# Altium footprint library RF_Module.PcbLib: 68 footprints (part 3 of 5)
Each footprint in its own frame and in the unit in brackets; x right, y up, seen from the top. Pads: shape width x height; smd on the part's side, far side on the other; paste and mask are expansions set on the pad; w line width, h text height; cw(c..) or ccw(c..) is an arc to the next point about the centre after c.
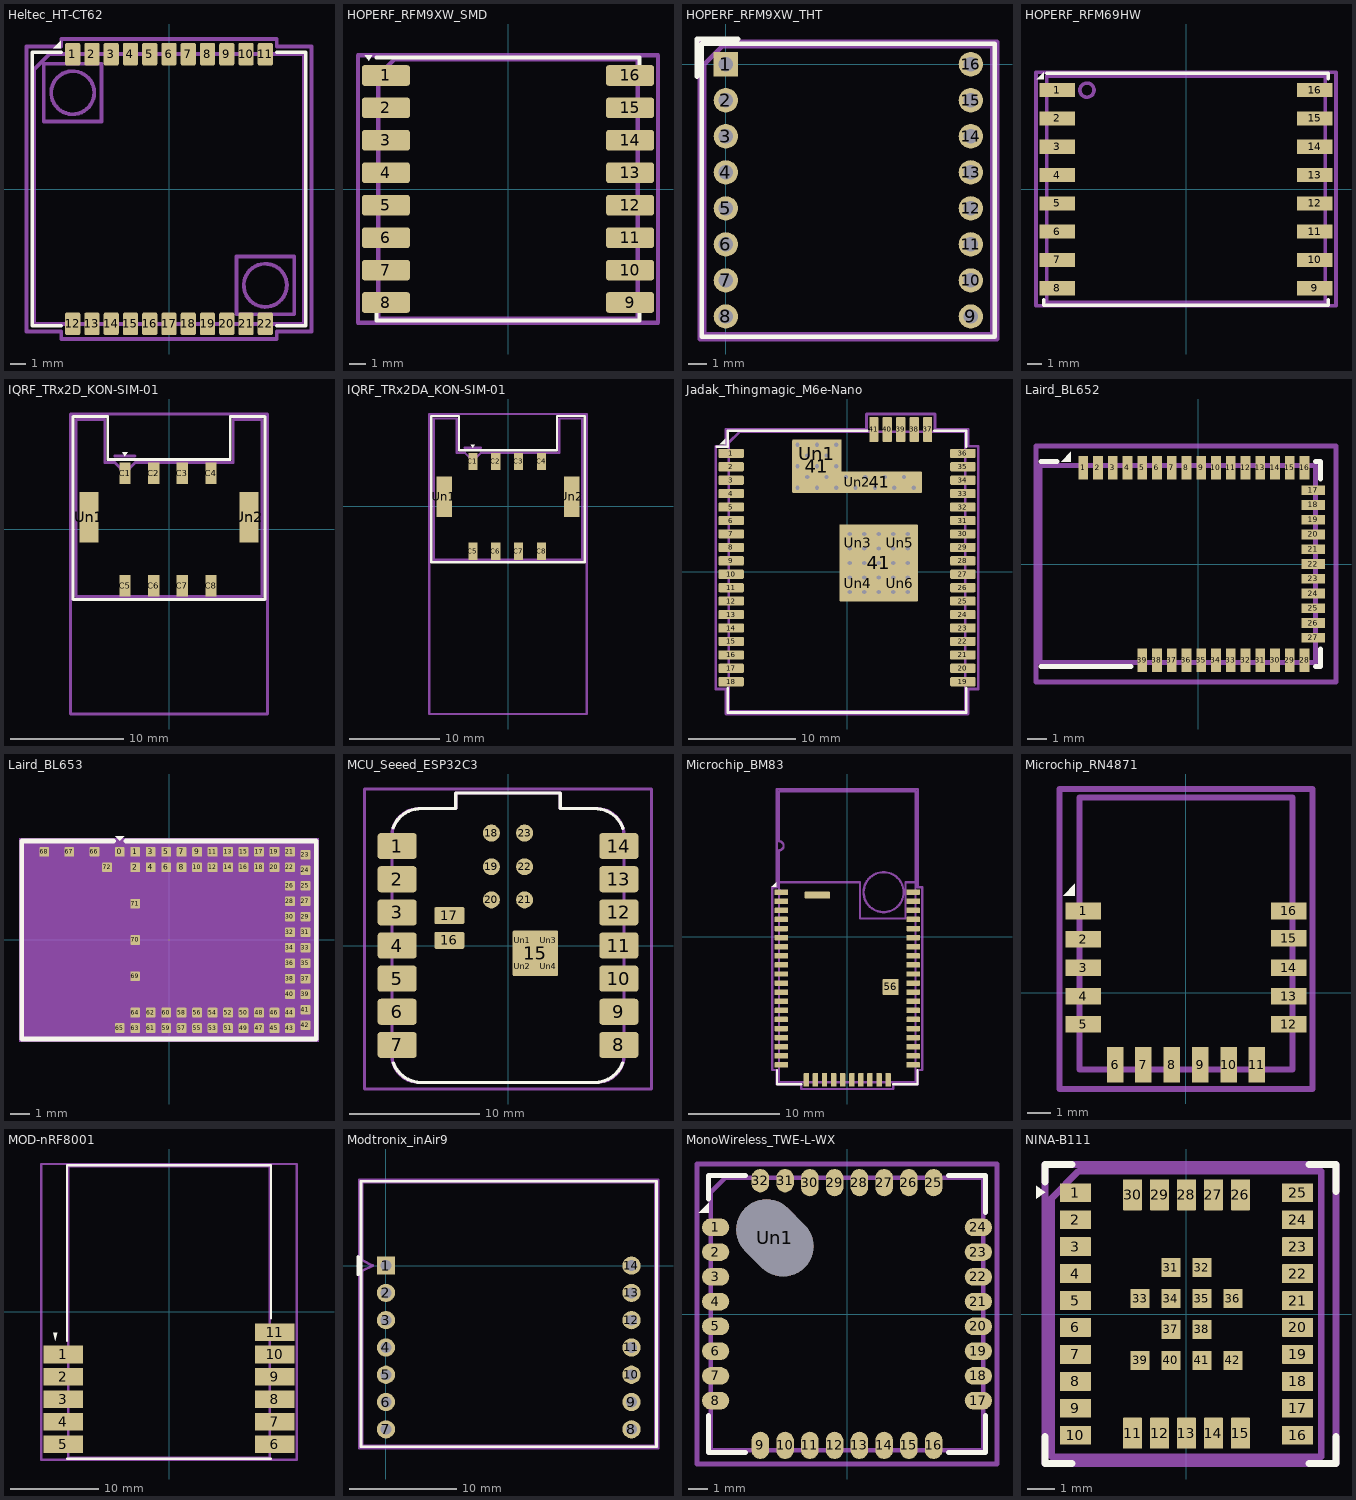
[diagram p2: the footprints below, top view; thin cyan lines are the x and y axes]

## Heltec_HT-CT62 [mm]
pads (22):
  rrect25% 1x1.5 smd: 1(-6.35,8.89) 2(-5.08,8.89) 3(-3.81,8.89) 4(-2.54,8.89) 5(-1.27,8.89) 6(0,8.89) 7(1.27,8.89) 8(2.54,8.89) 9(3.81,8.89) 10(5.08,8.89) 11(6.35,8.89) 12(-6.35,-8.89) 13(-5.08,-8.89) 14(-3.81,-8.89) 15(-2.54,-8.89) 16(-1.27,-8.89) 17(0,-8.89) 18(1.27,-8.89) 19(2.54,-8.89) 20(3.81,-8.89) 21(5.08,-8.89) 22(6.35,-8.89)
F.SilkS:
  region: -7.125,9.275 -7.625,9.275 -7.125,9.775
  lines w0.254: -7.112,-9.017 -9.017,-9.017 -9.017,9.017 -7.112,9.017 ; 7.112,-9.017 9.017,-9.017 9.017,9.017 7.112,9.017
F.Fab:
  circle w0.254: c-6.35,6.35 r1.42
  circle w0.254: c6.35,-6.35 r1.42
  lines w0.254: -8.89,-8.89 -8.89,7.89 -7.89,8.89 8.89,8.89 8.89,-8.89 -8.89,-8.89 ; -8.255,4.445 -8.255,8.255 -4.445,8.255 -4.445,4.445 -8.255,4.445 ; 4.445,-8.255 8.255,-8.255 8.255,-4.445 4.445,-4.445 4.445,-8.255
  text "'.Designator'" at -4.047,-0.84 h1
F.CrtYd:
  lines w0.254: -9.39,-9.39 -9.39,9.39 -7.1,9.39 -7.1,9.89 7.1,9.89 7.1,9.39 9.39,9.39 9.39,-9.39 7.1,-9.39 7.1,-9.89 -7.1,-9.89 -7.1,-9.39 -9.39,-9.39
Cmts.User:
  text "2.4G" at -8.278,2.144 h1
  text "LoRa" at 4.295,-4.714 h1

## HOPERF_RFM9XW_SMD [mm]
pads (16):
  rrect25% 2.95x1.27 smd: 1(-7.525,7) 2(-7.525,5) 3(-7.525,3) 4(-7.525,1) 5(-7.525,-1) 6(-7.525,-3) 7(-7.525,-5) 8(-7.525,-7) 9(7.525,-7) 10(7.525,-5) 11(7.525,-3) 12(7.525,-1) 13(7.525,1) 14(7.525,3) 15(7.525,5) 16(7.525,7)
F.SilkS:
  region: -8.6,7.9 -8.84,8.236 -8.36,8.236
  lines w0.254: -8.1,-7.7 -8.1,-8.1 8.1,-8.1 8.1,-7.7 ; -8.1,8.1 8.1,8.1 8.1,7.7
F.Fab:
  lines w0.254: -8,-8 -8,7 -7,8 8,8 8,-8 -8,-8
  text "'.Designator'" at -4.047,-0.84 h1
F.CrtYd:
  lines w0.254: -9.25,-8.25 -9.25,8.25 9.25,8.25 9.25,-8.25 -9.25,-8.25

## HOPERF_RFM9XW_THT [mm]
pads (16):
  rect 1.35x1.35 hole 0.8: 1(0,0)
  round 1.35 hole 0.8: 2(0,-2) 3(0,-4) 4(0,-6) 5(0,-8) 6(0,-10) 7(0,-12) 8(0,-14) 9(13.6,-14) 10(13.6,-12) 11(13.6,-10) 12(13.6,-8) 13(13.6,-6) 14(13.6,-4) 15(13.6,-2) 16(13.6,0)
F.SilkS:
  lines w0.254: -1.6,-0.7 -1.6,1.4 0.7,1.4 ; -1.325,-15.125 -1.325,1.125 14.925,1.125 14.925,-15.125 -1.325,-15.125
F.Fab:
  lines w0.254: -1.2,-15 -1.2,0 -0.2,1 14.8,1 14.8,-15 -1.2,-15
  text "'.Designator'" at 2.753,-7.84 h1
F.CrtYd:
  lines w0.254: -1.45,-15.25 -1.45,1.25 15.05,1.25 15.05,-15.25 -1.45,-15.25

## HOPERF_RFM69HW [mm]
pads (16):
  rect 2.5x1 smd: 1(-9.1,7) 2(-9.1,5) 3(-9.1,3) 4(-9.1,1) 5(-9.1,-1) 6(-9.1,-3) 7(-9.1,-5) 8(-9.1,-7) 9(9.1,-7) 10(9.1,-5) 11(9.1,-3) 12(9.1,-1) 13(9.1,1) 14(9.1,3) 15(9.1,5) 16(9.1,7)
F.SilkS:
  region: -10.05,7.775 -10.55,7.775 -10.05,8.275
  lines w0.254: -10.05,-7.8 -10.05,-8.2 10.05,-8.2 10.05,-7.8 ; -9.85,8.2 10.05,8.2 10.05,7.8
F.Fab:
  circle w0.254: c-7,7 r0.5
  lines w0.254: -9.85,-8 -9.85,8 9.85,8 9.85,-8 -9.85,-8
  text "'.Designator'" at -4.047,-0.84 h1
F.CrtYd:
  lines w0.254: -10.6,-8.25 -10.6,8.25 10.6,8.25 10.6,-8.25 -10.6,-8.25

## IQRF_TRx2D_KON-SIM-01 [mm]
pads (10):
  rect 1x1.9 smd: C1(-3.895,4.975) C2(-1.355,4.975) C3(1.185,4.975) C4(3.725,4.975) C5(-3.895,-4.975) C6(-1.355,-4.975) C7(1.185,-4.975) C8(3.725,-4.975)
  rect 1.7x4.5 smd: Un1(-7.075,1.07) Un2(7.075,1.07)
F.SilkS:
  region: -3.898,6.49 -4.137,6.826 -3.658,6.826
  lines w0.254: -5.42,9.98 -5.42,6.19 5.42,6.19 5.42,9.99 8.5,9.99 8.5,-6.2 -8.5,-6.2 -8.5,9.99 -5.42,9.99
F.Fab:
  lines w0.254: -4.8,5.92 -3.895,4.975 -2.995,5.92 5.69,5.92 5.69,9.72 8.225,9.72 8.225,-5.93 -8.225,-5.93 -8.225,9.72 -5.69,9.72 -5.69,5.92 -4.795,5.92 ; -4.8,6.49 -2.995,6.49
  text "'.Designator'" at -4.047,-0.84 h1
F.CrtYd:
  lines w0.254: -8.73,-16.35 -8.73,10.22 8.73,10.22 8.73,-16.35 -8.73,-16.35

## IQRF_TRx2DA_KON-SIM-01 [mm]
pads (10):
  rect 1x1.9 smd: C1(-3.895,4.975) C2(-1.355,4.975) C3(1.185,4.975) C4(3.725,4.975) C5(-3.895,-4.975) C6(-1.355,-4.975) C7(1.185,-4.975) C8(3.725,-4.975)
  rect 1.7x4.5 smd: Un1(-7.075,1.07) Un2(7.075,1.07)
F.SilkS:
  region: -3.898,6.49 -4.137,6.826 -3.658,6.826
  lines w0.254: -5.42,9.98 -5.42,6.19 5.42,6.19 5.42,9.99 8.5,9.99 8.5,-6.2 -8.5,-6.2 -8.5,9.99 -5.42,9.99
F.Fab:
  lines w0.254: -4.8,5.92 -3.895,4.975 -2.995,5.92 5.69,5.92 5.69,9.72 8.225,9.72 8.225,-5.93 -8.225,-5.93 -8.225,9.72 -5.69,9.72 -5.69,5.92 -4.795,5.92 ; -4.8,6.49 -2.995,6.49
  text "'.Designator'" at -4.047,-0.84 h1
F.CrtYd:
  lines w0.254: -8.73,-23 -8.73,10.22 8.73,10.22 8.73,-23 -8.73,-23
Cmts.User:
  text "Antenna" at -2.766,-20.65 h1
  text "KEEP OUT ZONE" at -5.696,-15.4 h1

## Jadak_Thingmagic_M6e-Nano [mm]
pads (96):
  rrect25% 2.365x0.85 smd: 1(-10.78,11)
  rrect25% 2.368x0.853 smd: 2(-10.78,9.75) 3(-10.78,8.5) 4(-10.78,7.25) 5(-10.78,6) 6(-10.78,4.75) 7(-10.78,3.5) 8(-10.78,2.25) 9(-10.78,1) 10(-10.78,-0.25) 11(-10.78,-1.5) 12(-10.78,-2.75) 13(-10.78,-4) 14(-10.78,-5.25) 15(-10.78,-6.5) 16(-10.78,-7.75) 17(-10.78,-9) 18(-10.78,-10.25) 19(10.78,-10.25) 20(10.78,-9) 21(10.78,-7.75) 22(10.78,-6.5) 23(10.78,-5.25) 24(10.78,-4) 25(10.78,-2.75) 26(10.78,-1.5) 27(10.78,-0.25) 28(10.78,1) 29(10.78,2.25) 30(10.78,3.5) 31(10.78,4.75) 32(10.78,6) 33(10.78,7.25) 34(10.78,8.5) 35(10.78,9.75) 36(10.78,11)
  rrect25% 0.853x2.368 smd: 37(7.5,13.22) 38(6.25,13.22) 39(5,13.22) 40(3.75,13.22) 41(2.5,13.22)
  round 0.8 hole 0.4: 41(-4.6,7.8) 41(-4.6,9.8) 41(-4.6,11.8) 41(-3.7,8.8) 41(-3.7,10.8) 41(-2.8,7.8) 41(-2.8,9.8) 41(-2.8,11.8) 41(-1.9,8.8) 41(-1.9,10.8) 41(-1,7.8) 41(-1,9.8) 41(-1,11.8) 41(-0.1,8.8) 41(0.25,-1.9) 41(0.25,-0.55) 41(0.25,0.8) 41(0.25,2.15) 41(0.25,3.5) 41(0.8,7.8) 41(1.6,-1.9) 41(1.6,-0.55) 41(1.6,0.8) 41(1.6,2.15) 41(1.6,3.5) 41(1.7,8.8) 41(2.6,7.8) 41(2.95,-1.9) 41(2.95,-0.55) 41(2.95,0.8) 41(2.95,2.15) 41(2.95,3.5) 41(3.5,8.8) 41(4.3,-1.9) 41(4.3,-0.55) 41(4.3,0.8) 41(4.3,2.15) 41(4.3,3.5) 41(4.4,7.8) 41(5.3,8.8) 41(5.65,-1.9) 41(5.65,-0.55) 41(5.65,0.8) 41(5.65,2.15) 41(5.65,3.5) 41(6.2,7.8)
  rrect5% 4.6x5 smd: 41(-2.8,9.8)
  rrect3% 7.3x7.2 smd: 41(2.95,0.8)
  rrect12% 8x2 smd: 41(3,8.3)
  rect 4.2x2.3 on Top Paste: Un1(-2.8,10.95)
  rect 11.7x1.6 on Top Paste: Un2(0.95,8.3)
  rect 3x3 on Top Paste: Un3(1,2.7) Un4(1,-1.1) Un5(4.9,2.7) Un6(4.9,-1.1)
F.SilkS:
  region: -11.35,11.85 -11.85,11.85 -11.35,12.35
  lines w0.254: -12.1,11.62 -11.1,11.62 -11.1,13.1 1.87,13.1 ; -11.1,-10.88 -11.1,-13.1 11.1,-13.1 11.1,-10.88 ; 8.13,13.1 11.1,13.1 11.1,11.62
F.Fab:
  lines w0.254: -11,-13 -11,12 -10,13 11,13 11,-13 -11,-13
  text "'.Designator'" at -4.047,-0.84 h1
F.CrtYd:
  lines w0.254: -12.22,-10.93 -12.22,11.67 -11.25,11.67 -11.25,13.25 1.82,13.25 1.82,14.66 8.18,14.66 8.18,13.25 11.25,13.25 11.25,11.67 12.22,11.67 12.22,-10.93 11.25,-10.93 11.25,-13.25 -11.25,-13.25 -11.25,-10.93 -12.22,-10.93

## Laird_BL652 [mm]
pads (39):
  rect 0.5x1.2 smd: 1(-5.85,4.9) 2(-5.1,4.9) 3(-4.35,4.9) 4(-3.6,4.9) 5(-2.85,4.9) 6(-2.1,4.9) 7(-1.35,4.9) 8(-0.6,4.9) 9(0.15,4.9) 10(0.9,4.9) 11(1.65,4.9) 12(2.4,4.9) 13(3.15,4.9) 14(3.9,4.9) 15(4.65,4.9) 16(5.4,4.9) 28(5.4,-4.9) 29(4.65,-4.9) 30(3.9,-4.9) 31(3.15,-4.9) 32(2.4,-4.9) 33(1.65,-4.9) 34(0.9,-4.9) 35(0.15,-4.9) 36(-0.6,-4.9) 37(-1.35,-4.9) 38(-2.1,-4.9) 39(-2.85,-4.9)
  rect 1.2x0.5 smd: 17(5.85,3.75) 18(5.85,3) 19(5.85,2.25) 20(5.85,1.5) 21(5.85,0.75) 22(5.85,0) 23(5.85,-0.75) 24(5.85,-1.5) 25(5.85,-2.25) 26(5.85,-3) 27(5.85,-3.75)
F.SilkS:
  region: -6.477,5.207 -6.977,5.207 -6.477,5.707
  lines w0.254: -8.001,-5.207 -3.429,-5.207 ; -8.001,5.207 -7.175,5.207 ; 5.969,-5.207 6.223,-5.207 6.223,-4.318 ; 5.969,5.207 6.223,5.207 6.223,4.318
F.Fab:
  lines w0.254: 5.9,5 -8.05,5 -8.05,-5 5.95,-5 5.95,5
  text "'.Designator'" at -4.047,1.66 h1
F.CrtYd:
  lines w0.254: -8.25,-6 -8.25,6 7,6 7,-6 -8.25,-6

## Laird_BL653 [mm]
pads (73):
  rrect20% 0.5x0.5 smd: 0(-2.55,4.55) 1(-1.75,4.55) 2(-1.75,3.75) 3(-0.95,4.55) 4(-0.95,3.75) 5(-0.15,4.55) 6(-0.15,3.75) 7(0.65,4.55) 8(0.65,3.75) 9(1.45,4.55) 10(1.45,3.75) 11(2.25,4.55) 12(2.25,3.75) 13(3.05,4.55) 14(3.05,3.75) 15(3.85,4.55) 16(3.85,3.75) 17(4.65,4.55) 18(4.65,3.75) 19(5.45,4.55) 20(5.45,3.75) 21(6.25,4.55) 22(6.25,3.75) 23(7.05,4.4) 24(7.05,3.6) 25(7.05,2.8) 26(6.25,2.8) 27(7.05,2) 28(6.25,2) 29(7.05,1.2) 30(6.25,1.2) 31(7.05,0.4) 32(6.25,0.4) 33(7.05,-0.4) 34(6.25,-0.4) 35(7.05,-1.2) 36(6.25,-1.2) 37(7.05,-2) 38(6.25,-2) 39(7.05,-2.8) 40(6.25,-2.8) 41(7.05,-3.6) 42(7.05,-4.4) 43(6.25,-4.55) 44(6.25,-3.75) 45(5.45,-4.55) 46(5.45,-3.75) 47(4.65,-4.55) 48(4.65,-3.75) 49(3.85,-4.55) 50(3.85,-3.75) 51(3.05,-4.55) 52(3.05,-3.75) 53(2.25,-4.55) 54(2.25,-3.75) 55(1.45,-4.55) 56(1.45,-3.75) 57(0.65,-4.55) 58(0.65,-3.75) 59(-0.15,-4.55) 60(-0.15,-3.75) 61(-0.95,-4.55) 62(-0.95,-3.75) 63(-1.75,-4.55) 64(-1.75,-3.75) 65(-2.55,-4.55) 66(-3.85,4.55) 67(-5.15,4.55) 68(-6.45,4.55) 69(-1.75,-1.875) 70(-1.75,0) 71(-1.75,1.875) 72(-3.2,3.75)
F.SilkS:
  region: -2.55,5.125 -2.775,5.35 -2.325,5.35
  lines w0.254: -2.875,5.11 -7.61,5.11 -7.61,-5.11 7.61,-5.11 7.61,5.11 -2.225,5.11
F.Fab:
  region: 7.5,-5 -7.5,-5 -7.5,5 -2.8,5 -2.55,4.75 -2.3,5 7.5,5
  text "'.Designator'" at -4.047,-0.84 h1
F.CrtYd:
  region: 7.75,-5.25 -7.75,-5.25 -7.75,5.25 7.75,5.25

## MCU_Seeed_ESP32C3 [mm]
pads (27):
  rrect25% 3x2 smd: 1(-8.5,7.62) 2(-8.5,5.08) 3(-8.5,2.54) 4(-8.5,0) 5(-8.5,-2.54) 6(-8.5,-5.08) 7(-8.5,-7.62) 8(8.5,-7.62) 9(8.5,-5.08) 10(8.5,-2.54) 11(8.5,0) 12(8.5,2.54) 13(8.5,5.08) 14(8.5,7.62)
  rrect7% 3.5x3.5 smd: 15(2.1,-0.6)
  rrect19% 2.3x1.3 smd: 16(-4.5,0.4) 17(-4.5,2.3)
  round 1.3 smd: 18(-1.27,8.62) 19(-1.27,6.04) 20(-1.27,3.5) 21(1.27,3.5) 22(1.27,6.04) 23(1.27,8.62)
  rrect17% 1.5x1.5 on Top Paste: Un1(1.1,0.4) Un2(1.1,-1.6) Un3(3.1,0.4) Un4(3.1,-1.6)
F.SilkS:
  lines w0.254: -8.813,9.005 cw(c-6.678,8.23) -6.6,10.5 -4,10.5 -4,11.7 4,11.7 4,10.5 6.6,10.5 cw(c6.665,8.225) 8.804,9.001 ; -8.8,-9 ccw(c-6.626,-8.176) -6.7,-10.5 6.7,-10.5 ccw(c6.626,-8.176) 8.8,-9
F.Fab:
  lines w0.254: 8.9,8.498 ccw(c6.799,8.399) 6.7,10.5 4,10.5 4,11.7 -4,11.7 -4,10.5 -6.7,10.5 ccw(c-6.8,8.4) -8.9,8.5 -8.9,-8.5 ccw(c-6.8,-8.4) -6.7,-10.5 6.7,-10.5 ccw(c6.8,-8.4) 8.9,-8.5 8.9,8.5
  text "'.Designator'" at -4.047,-3.34 h1
F.CrtYd:
  lines w0.254: -11,-11 -11,12 11,12 11,-11 -11,-11

## Microchip_BM83 [mm]
pads (52):
  rrect25% 1.5x0.6 smd: 1(-7.25,4.9) 2(-7.25,3.9) 3(-7.25,2.9) 4(-7.25,1.9) 5(-7.25,0.9) 6(-7.25,-0.1) 7(-7.25,-1.1) 8(-7.25,-2.1) 9(-7.25,-3.1) 10(-7.25,-4.1) 11(-7.25,-5.1) 12(-7.25,-6.1) 13(-7.25,-7.1) 14(-7.25,-8.1) 15(-7.25,-9.1) 16(-7.25,-10.1) 17(-7.25,-11.1) 18(-7.25,-12.1) 19(-7.25,-13.1) 20(-7.25,-14.1) 31(7.25,-14.1) 32(7.25,-13.1) 33(7.25,-12.1) 34(7.25,-11.1) 35(7.25,-10.1) 36(7.25,-9.1) 37(7.25,-8.1) 38(7.25,-7.1) 39(7.25,-6.1) 40(7.25,-5.1) 41(7.25,-4.1) 42(7.25,-3.1) 43(7.25,-2.1) 44(7.25,-1.1) 45(7.25,-0.1) 46(7.25,0.9) 47(7.25,1.9) 48(7.25,2.9) 49(7.25,3.9) 50(7.25,4.9)
  rrect25% 0.6x1.5 smd: 21(-4.5,-15.75) 22(-3.5,-15.75) 23(-2.5,-15.75) 24(-1.5,-15.75) 25(-0.5,-15.75) 26(0.5,-15.75) 27(1.5,-15.75) 28(2.5,-15.75) 29(3.5,-15.75) 30(4.5,-15.75)
  rrect14% 1.78x1.78 smd: 56(4.77,-5.53)
  rrect25% 2.79x0.76 smd: 57(-3.29,4.58)
F.SilkS:
  region: -7.8,5.5 -8.3,5.5 -7.8,6
  lines w0.254: -7.73,-14.66 -7.73,-16.23 -5.06,-16.23 ; 5.06,-16.23 7.73,-16.23 7.73,-14.66
F.Fab:
  lines w0.254: -7.5,4.6 -7.1,4.9 -7.5,5.2 ; -7.5,6 1.4,6 1.4,2 6.4,2 6.4,6 7.5,6 ; -7.5,-16 -7.5,9.5 ccw(c-7.5,10) -7.5,10.5 -7.5,16 7.5,16 7.5,-16 -7.5,-16
  text "'.Designator'" at 0.84,-4.047 h1
F.CrtYd:
  lines w0.254: -8.25,-14.65 -8.25,5.45 -7.75,5.45 -7.75,16.25 7.75,16.25 7.75,5.45 8.25,5.45 8.25,-14.65 7.75,-14.65 7.75,-16.25 5.05,-16.25 5.05,-16.75 -5.05,-16.75 -5.05,-16.25 -7.75,-16.25 -7.75,-14.65 -8.25,-14.65
Cmts.User:
  circle w0.254: c4,4.9 r2.2
  text "TEST" at 2.286,4.25 h1
  text "Antenna area" at -5.025,9.35 h1

## Microchip_RN4871 [mm]
pads (16):
  rect 1.5x0.7 smd: 1(-4.35,3.45) 2(-4.35,2.25) 3(-4.35,1.05) 4(-4.35,-0.15) 5(-4.35,-1.35) 12(4.35,-1.35) 13(4.35,-0.15) 14(4.35,1.05) 15(4.35,2.3) 16(4.35,3.45)
  rect 0.7x1.5 smd: 6(-3,-3.05) 7(-1.8,-3.05) 8(-0.6,-3.05) 9(0.6,-3.05) 10(1.8,-3.05) 11(3,-3.05)
F.SilkS:
  region: -4.7,4.1 -5.2,4.1 -4.7,4.6
F.Fab:
  lines w0.254: -4.5,-3.25 -4.5,8.25 4.5,8.25 4.5,-3.25 -4.5,-3.25
  text "'.Designator'" at -3.997,1.71 h1
F.CrtYd:
  lines w0.254: -5.36,-4.08 -5.36,8.61 5.36,8.61 5.36,-4.08 -5.36,-4.08
Cmts.User:
  text "KEEP-OUT ZONE" at -2.965,6.95 h0.5
  text "On any layer" at -1.145,5.483 h0.25
  text "KEEP-OUT ZONE" at -2.4,1.018 h0.25
  text "KEEP-OUT ZONE" at 2,-0.657 h0.25
  text "No Metal, No Traces, Components" at -2.97,5.983 h0.25

## MOD-nRF8001 [mm]
pads (11):
  rect 4.5x2 smd: 1(-11.98,-4.83) 2(-11.98,-7.37) 3(-11.98,-9.91) 4(-11.98,-12.45) 5(-11.98,-14.99) 6(11.98,-14.99) 7(11.98,-12.45) 8(11.98,-9.91) 9(11.98,-7.37) 10(11.98,-4.83) 11(11.98,-2.29)
F.SilkS:
  region: -12.89,-3.26 -13.125,-2.35 -12.655,-2.35
  lines w0.254: -11.55,-16.634 11.55,-16.634 ; -11.55,-3.26 -11.55,16.626 11.55,16.626 11.55,-0.72
F.Fab:
  lines w0.254: -11.43,-16.514 -11.43,-5.83 -10.43,-4.83 -11.43,-3.83 -11.43,16.506 11.43,16.506 11.43,-16.514 -11.43,-16.514
  text "'.Designator'" at 1.64,-4.537 h1
F.CrtYd:
  lines w0.254: -14.48,-16.76 -14.48,16.76 14.48,16.76 14.48,-16.76 -14.48,-16.76
Cmts.User:
  text "Antenna" at -3.066,10.25 h1
  text "KEEP-OUT ZONE" at -6.18,12.45 h1

## Modtronix_inAir9 [mm]
pads (14):
  rect 1.7x1.7 hole 1: 1(0,0)
  round 1.7 hole 1: 2(0,-2.54) 3(0,-5.08) 4(0,-7.62) 5(0,-10.16) 6(0,-12.7) 7(0,-15.24) 8(22.86,-15.24) 9(22.86,-12.7) 10(22.86,-10.16) 11(22.86,-7.62) 12(22.86,-5.08) 13(22.86,-2.54) 14(22.86,0)
F.SilkS:
  lines w0.254: -2.6,-0.85 -2.6,0.85 ; -2.33,-16.87 25.19,-16.87 25.19,7.86 -2.33,7.86 -2.33,-16.87
F.Fab:
  lines w0.254: -2.22,-16.76 25.08,-16.76 25.08,7.75 -2.22,7.75 -2.22,0.5 -1.22,0 -2.22,-0.5 -2.22,-16.76
  text "'.Designator'" at 7.383,-5.349 h1
F.CrtYd:
  lines w0.254: -2.47,-17.01 25.33,-17.01 25.33,8 -2.47,8 -2.47,-17.01

## MonoWireless_TWE-L-WX [mm]
pads (33):
  rrect100% 1.4x0.9 smd: 1(-6.735,4.445) 2(-6.735,3.175) 3(-6.735,1.905) 4(-6.735,0.635) 5(-6.735,-0.635) 6(-6.735,-1.905) 7(-6.735,-3.175) 8(-6.735,-4.445) 17(6.735,-4.445) 18(6.735,-3.175) 19(6.735,-1.905) 20(6.735,-0.635) 21(6.735,0.635) 22(6.735,1.905) 23(6.735,3.175) 24(6.735,4.445)
  rrect100% 0.9x1.4 smd: 9(-4.445,-6.735) 10(-3.175,-6.735) 11(-1.905,-6.735) 12(-0.635,-6.735) 13(0.635,-6.735) 14(1.905,-6.735) 15(3.175,-6.735) 16(4.445,-6.735) 25(4.445,6.735) 26(3.175,6.735) 27(1.905,6.735) 28(0.635,6.735) 29(-0.635,6.735) 30(-1.905,6.735)
  rrect100% 0.9x1.2 smd: 31(-3.175,6.835) 32(-4.445,6.835)
  rrect100% 4.3x3.1 hole 3.1 slot 4.3 at 135 deg rot 135: Un1(-3.7,3.9)
F.SilkS:
  region: -7.1,5.2 -7.6,5.2 -7.1,5.7
  lines w0.254: -7.1,-5.2 -7.1,-7.1 -5.2,-7.1 ; -7.1,5.9 -7.1,7.1 -5.2,7.1 ; 5.2,-7.1 7.1,-7.1 7.1,-5.2 ; 5.2,7.1 7.1,7.1 7.1,5.2
F.Fab:
  lines w0.254: -6.985,-6.985 -6.985,6.25 -6.25,6.985 6.985,6.985 6.985,-6.985 -6.985,-6.985
  text "'.Designator'" at -4.047,-0.04 h1
F.CrtYd:
  lines w0.254: -7.69,-7.69 -7.69,7.69 7.69,7.69 7.69,-7.69 -7.69,-7.69
3D body "MonoWireless_TWE-L-WX.step": height 2.49, standoff 0, extent -6.985,-6.985 6.985,6.985

## NINA-B111 [mm]
pads (42):
  rect 1.15x0.7 smd: 1(-4.125,4.5)
  rrect5% 1.15x0.7 smd: 2(-4.125,3.5) 3(-4.125,2.5) 4(-4.125,1.5) 5(-4.125,0.5) 6(-4.125,-0.5) 7(-4.125,-1.5) 8(-4.125,-2.5) 9(-4.125,-3.5) 10(-4.125,-4.5) 16(4.125,-4.5) 17(4.125,-3.5) 18(4.125,-2.5) 19(4.125,-1.5) 20(4.125,-0.5) 21(4.125,0.5) 22(4.125,1.5) 23(4.125,2.5) 24(4.125,3.5) 25(4.125,4.5)
  rrect5% 0.7x1.15 smd: 11(-2,-4.425) 12(-1,-4.425) 13(0,-4.425) 14(1,-4.425) 15(2,-4.425) 26(2,4.425) 27(1,4.425) 28(0,4.425) 29(-1,4.425) 30(-2,4.425)
  rrect2% 0.7x0.7 smd: 31(-0.575,1.725) 32(0.575,1.725) 33(-1.725,0.575) 34(-0.575,0.575) 35(0.575,0.575) 36(1.725,0.575) 37(-0.575,-0.575) 38(0.575,-0.575) 39(-1.725,-1.725) 40(-0.575,-1.725) 41(0.575,-1.725) 42(1.725,-1.725)
F.SilkS:
  region: -5.25,4.525 -5.586,4.285 -5.586,4.765
  lines w0.254: -5.25,-4.55 -5.25,-5.55 -4.25,-5.55 ; -5.25,4.9 -5.25,5.55 -4.25,5.55 ; 4.55,-5.55 5.55,-5.55 5.55,-4.55 ; 4.55,5.55 5.55,5.55 5.55,4.55
F.Fab:
  lines w0.254: -5,-5.3 5,-5.3 5,5.3 -4,5.3 -5,4.3 -5,-5.3
  text "'.Designator'" at -4.047,-0.84 h1
F.CrtYd:
  lines w0.254: -5.25,-5.55 5.55,-5.55 5.55,5.55 -5.25,5.55 -5.25,-5.55
Cmts.User:
  text "soldermask adjustments." at -3.425,-3.401 h0.4
  text "Pins 6,12,14,26,30 might need" at -4.232,-2.751 h0.4
  text "Depanelization residues area" at 5.368,-1.957 h0.2
  text "Please check the datasheet." at -3.928,-3.925 h0.4